# Altium footprint library WURTH 691508110308.PCBLIB: 1 footprints
Each footprint in its own frame and in the unit in brackets; x right, y up, seen from the top. Pads: shape width x height; smd on the part's side, far side on the other; paste and mask are expansions set on the pad; w line width, h text height; cw(c..) or ccw(c..) is an arc to the next point about the centre after c.
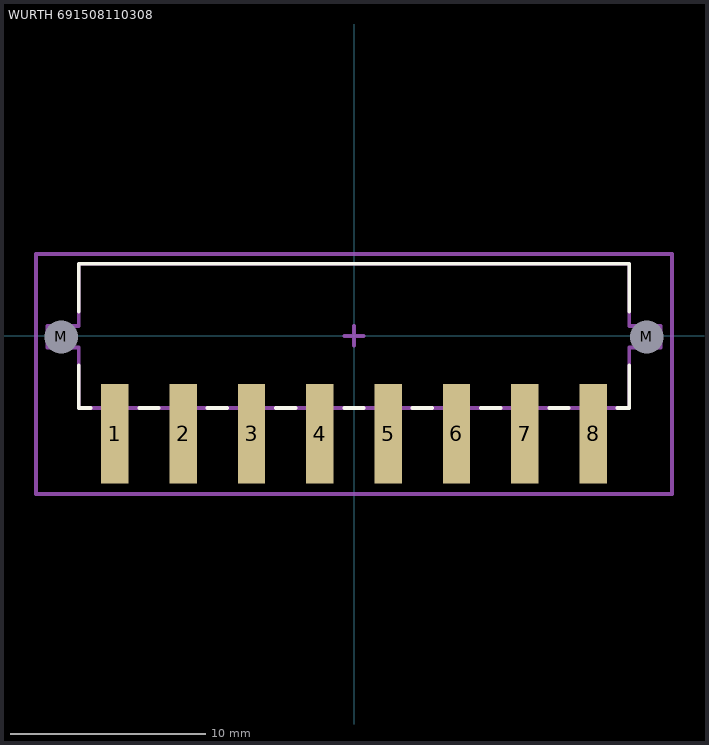
[diagram p0: the footprint, top view; thin cyan lines are the x and y axes]

## WURTH 691508110308 [mm]
height 11.2
pads (10):
  rect 1.4x5.1 smd: 1(-12.25,-5) 2(-8.75,-5) 3(-5.25,-5) 4(-1.75,-5) 5(1.75,-5) 6(5.25,-5) 7(8.75,-5) 8(12.25,-5)
  round 1 hole 1.7 unplated: M(-15,-0.05) M(15,-0.05)
Top Overlay:
  lines w0.2: -14.1,-1.5 -14.1,-3.7 -13.5,-3.7 ; -14.1,1.25 -14.1,3.7 14.1,3.7 14.1,1.25 ; -11,-3.7 -10,-3.7 ; -7.5,-3.7 -6.5,-3.7 ; -4,-3.7 -3,-3.7 ; -0.5,-3.7 0.5,-3.7 ; 3,-3.7 4,-3.7 ; 6.5,-3.7 7.5,-3.7 ; 10,-3.7 11,-3.7 ; 13.5,-3.7 14.1,-3.7 14.1,-1.5
Mechanical 1:
  lines w0.2: -15.7,-0.6 -15.7,0.5 -14.1,0.5 -14.1,3.7 14.1,3.7 14.1,0.5 15.7,0.5 15.7,-0.6 14.1,-0.6 14.1,-3.7 -14.1,-3.7 -14.1,-0.6 -15.7,-0.6
Mechanical 15:
  lines w0.2: -0.5,0 0.5,0 ; 0,-0.5 0,0.5 ; -16.3,-8.1 16.3,-8.1 16.3,4.2 -16.3,4.2 -16.3,-8.1
3D body "Wurth 691508110308.STEP": height 11.2, standoff -2, extent -15.675,-7.2 15.675,3.7